# EAGLE library part DP83848C (library _RoweTel)
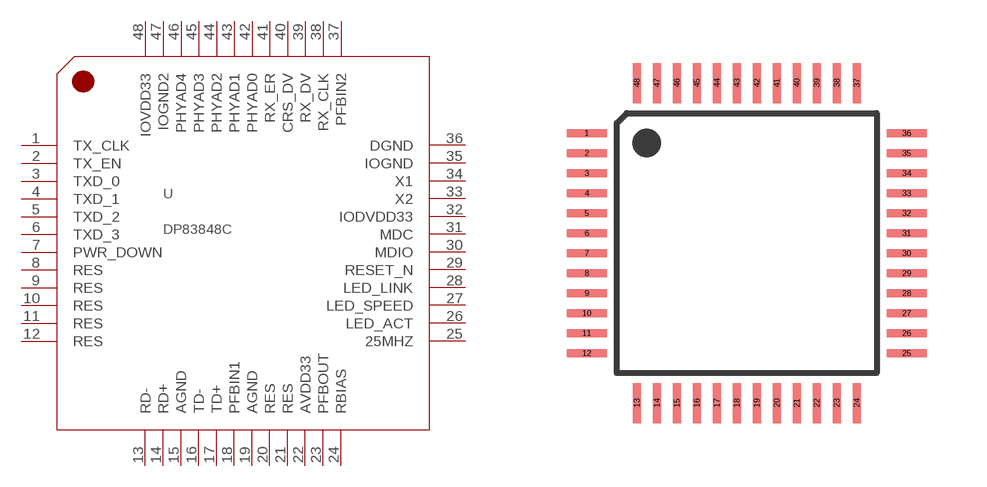
[diagram p7: symbol with the pads of LQFP48; footprint LQFP48]

Designator prefix U

## DP83848C  [LQFP48]
1  TX_CLK
2  TX_EN
3  TXD_0
4  TXD_1
5  TXD_2
6  TXD_3
7  PWR_DOWN
8  RES
9  RES
10  RES
11  RES
12  RES
13  RD-
14  RD+
15  AGND
16  TD-
17  TD+
18  PFBIN1
19  AGND
20  RES
21  RES
22  AVDD33
23  PFBOUT
24  RBIAS
25  25MHZ
26  LED_ACT
27  LED_SPEED
28  LED_LINK
29  RESET_N
30  MDIO
31  MDC
32  IODVDD33
33  X2
34  X1
35  IOGND
36  DGND
37  PFBIN2
38  RX_CLK
39  RX_DV
40  CRS_DV
41  RX_ER
42  PHYAD0
43  PHYAD1
44  PHYAD2
45  PHYAD3
46  PHYAD4
47  IOGND2
48  IOVDD33

## Footprint LQFP48 (pad centres in mm)
smd 1 x 0.2: 1 -4,2.75; 2 -4,2.25; 3 -4,1.75; 4 -4,1.25; 5 -4,0.75; 6 -4,0.25; 7 -4,-0.25; 8 -4,-0.75; 9 -4,-1.25; 10 -4,-1.75; 11 -4,-2.25; 12 -4,-2.75; 25 4,-2.75; 26 4,-2.25; 27 4,-1.75; 28 4,-1.25; 29 4,-0.75; 30 4,-0.25; 31 4,0.25; 32 4,0.75; 33 4,1.25; 34 4,1.75; 35 4,2.25; 36 4,2.75
smd 0.2 x 1: 13 -2.75,-4; 14 -2.25,-4; 15 -1.75,-4; 16 -1.25,-4; 17 -0.75,-4; 18 -0.25,-4; 19 0.25,-4; 20 0.75,-4; 21 1.25,-4; 22 1.75,-4; 23 2.25,-4; 24 2.75,-4; 37 2.75,4; 38 2.25,4; 39 1.75,4; 40 1.25,4; 41 0.75,4; 42 0.25,4; 43 -0.25,4; 44 -0.75,4; 45 -1.25,4; 46 -1.75,4; 47 -2.25,4; 48 -2.75,4